# Altium footprint library clock_led.PcbLib: 50 footprints (part 3 of 4)
Each footprint in its own frame and in the unit in brackets; x right, y up, seen from the top. Pads: shape width x height; smd on the part's side, far side on the other; paste and mask are expansions set on the pad; w line width, h text height; cw(c..) or ccw(c..) is an arc to the next point about the centre after c.
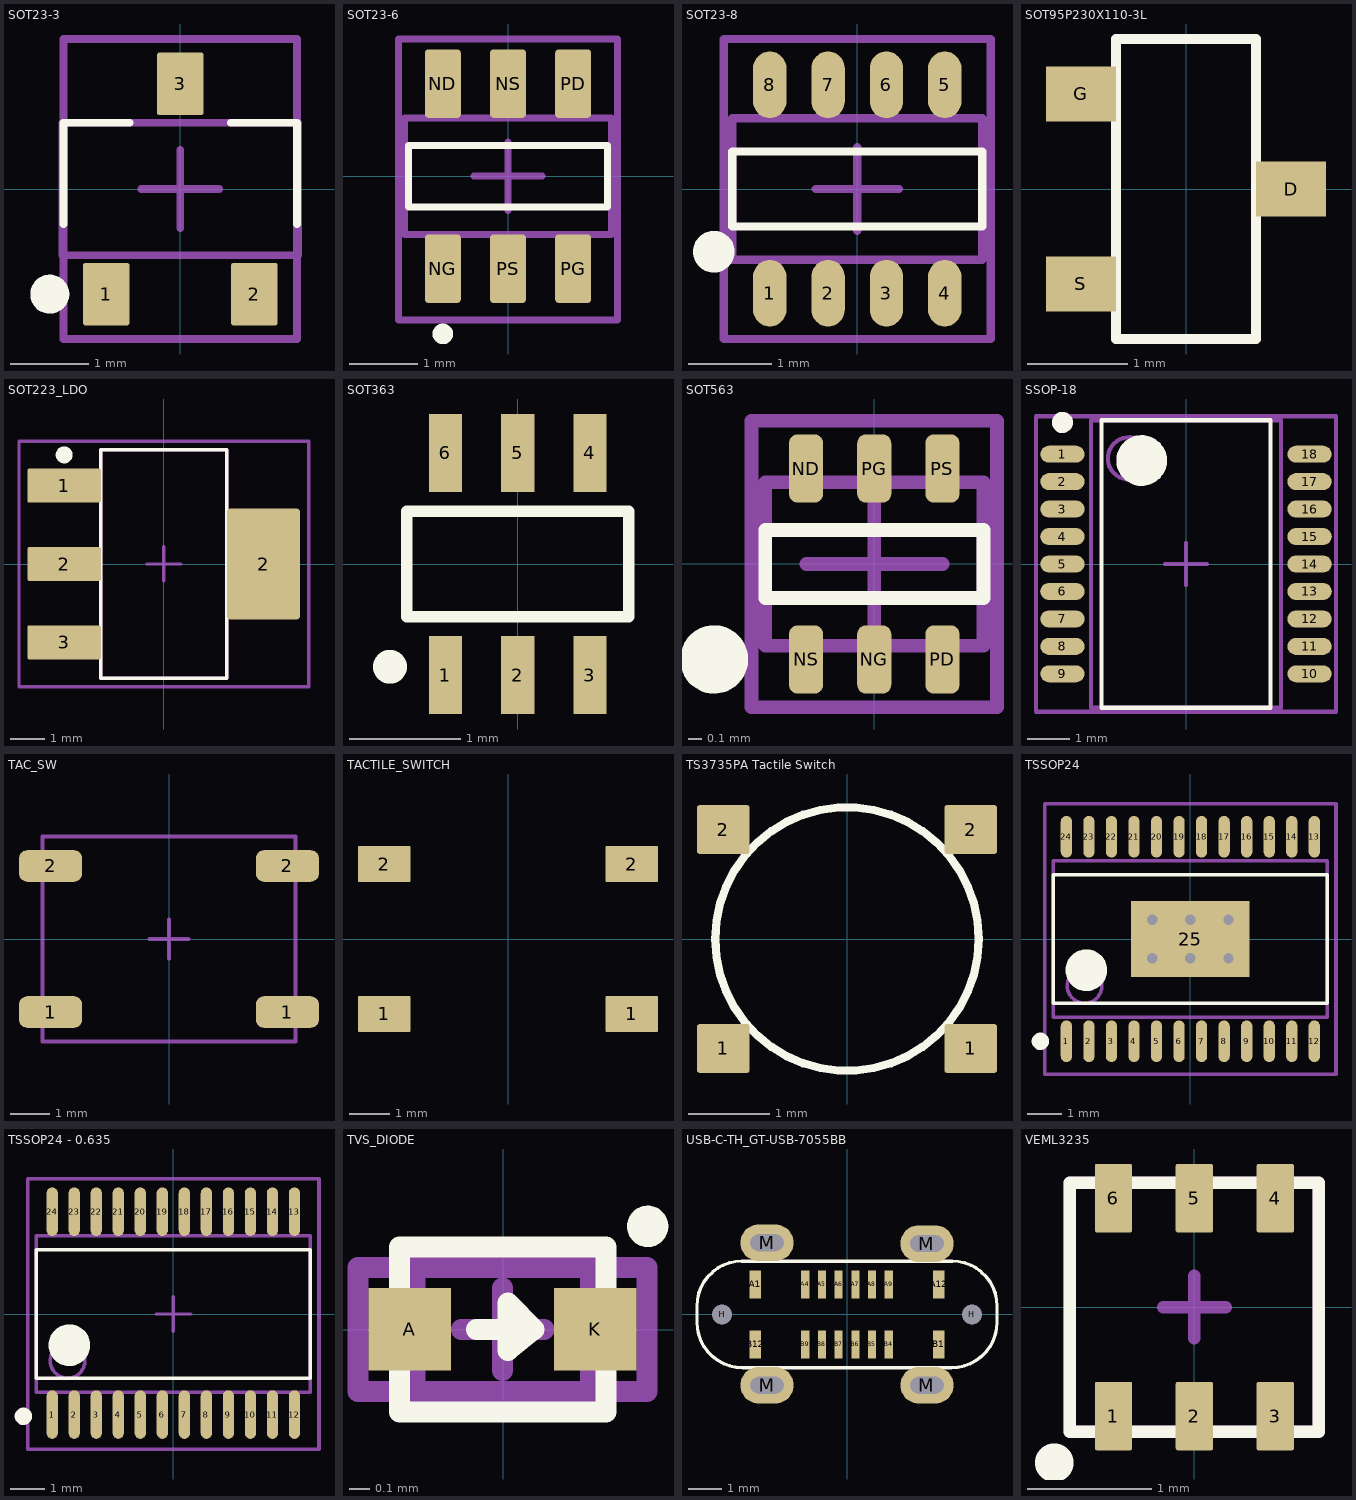
[diagram p2: the footprints below, top view; thin cyan lines are the x and y axes]

## SOT23-3 [mm] "SOT23, 3-Leads, Body 2.92x2.80mm, Pitch 0.95mm, IPC Medium Density"
height 1.25
pads (3):
  rrect10% 0.6x0.8 smd: 1(-0.95,-1.35) 2(0.95,-1.35) 3(0,1.35)
Top Overlay:
  circle w0.25: c-1.675,-1.35 r0.125
  lines w0.102: -1.5,-0.45 -1.5,0.85 -0.651,0.85 ; 0.651,0.85 1.5,0.85 1.5,-0.45
Top Assembly:
  lines w0.102: -1.51,-0.85 1.51,-0.85 1.51,0.85 -1.51,0.85 -1.51,-0.85
Top Courtyard:
  lines w0.1: -0.5,0 0.5,0 ; 0,-0.5 0,0.5
  lines w0.102: -1.5,-1.925 1.5,-1.925 1.5,1.925 -1.5,1.925 -1.5,-1.925
3D body "SOT23-3.step": height 1.25, standoff 0, extent -1.51,-1.475 1.51,1.475

## SOT23-6 [mm] "SOT23, 6-Leads, Body 2.92x2.80mm, Pitch 0.95mm, IPC Medium Density"
height 1.25
pads (6):
  rrect20% 0.525x1 smd: ND(-0.95,1.35) NG(-0.95,-1.35) NS(0,1.35) PD(0.95,1.35) PG(0.95,-1.35) PS(0,-1.35)
Top Overlay:
  circle w0.15: c-0.95,-2.3 r0.075
  lines w0.102: -1.45,-0.45 -1.45,0.45 1.45,0.45 1.45,-0.45 -1.45,-0.45
Top Assembly:
  lines w0.102: -1.51,-0.85 1.51,-0.85 1.51,0.85 -1.51,0.85 -1.51,-0.85
Top Courtyard:
  lines w0.1: -0.5,0 0.5,0 ; 0,-0.5 0,0.5
  lines w0.102: -1.6,-2.1 1.6,-2.1 1.6,2 -1.6,2 -1.6,-2.1
3D body "SOT32-6.step": height 1.25, standoff 0, extent -1.51,-1.475 1.51,1.475

## SOT23-8 [mm] "Dual mosfet AP4580"
height 1
pads (8):
  oval 0.4x0.8 smd: 1(-1.05,-1.25) 2(-0.35,-1.25) 3(0.35,-1.25) 4(1.05,-1.25) 5(1.05,1.25) 6(0.35,1.25) 7(-0.35,1.25) 8(-1.05,1.25)
Top Overlay:
  circle w0.25: c-1.721,-0.753 r0.125
  lines w0.102: -1.5,-0.45 1.5,-0.45 1.5,0.45 -1.5,0.45 -1.5,-0.45
Top Assembly:
  lines w0.102: -1.5,-0.85 1.5,-0.85 1.5,0.85 -1.5,0.85 -1.5,-0.85
Top Courtyard:
  lines w0.1: -0.5,0 0.5,0 ; 0,-0.5 0,0.5
  lines w0.102: -1.6,-1.8 1.6,-1.8 1.6,1.8 -1.6,1.8 -1.6,-1.8
3D body "SOT23-8.step": height 1, standoff 0, extent -1.5,-1.415 1.5,1.415

## SOT95P230X110-3L [mm] "SOT23, 3-Leads, Body 2.90x2.30mm, Pitch 0.95mm, IPC High Density"
height 1.1
pads (3):
  rrect1% 0.7x0.55 smd: D(1.05,0) G(-1.05,0.95) S(-1.05,-0.95)
Top Overlay:
  lines w0.102: -0.7,-1.5 -0.7,1.5 0.7,1.5 0.7,-1.5 -0.7,-1.5
Top Assembly:
  lines w0.1: -0.7,-1.5 -0.7,1.5 0.7,1.5 0.7,-1.5 -0.7,-1.5
3D body "SOT95P230X110-3L.step": height 1.1, standoff 0, extent -1.3,-1.5 1.3,1.5

## SOT223_LDO [mm] "SOT223, 4-Leads, Body 6.50x7.00mm (avg), Pitch 2.30mm, IPC Medium Density"
height 1.8
pads (4):
  rrect10% 2.15x1 smd: 1(-2.925,2.3) 2(-2.925,0) 3(-2.925,-2.3)
  rrect10% 2.15x3.25 smd: 2(2.925,0)
Top Overlay:
  circle w0.25: c-2.925,3.2 r0.125
  lines w0.102: -1.85,-3.35 -1.85,3.35 1.85,3.35 1.85,-3.35 -1.85,-3.35
Top Assembly:
  lines w0.102: -1.85,-3.35 -1.85,3.35 1.85,3.35 1.85,-3.35 -1.85,-3.35
Top Courtyard:
  lines w0.1: -0.5,0 0.5,0 ; 0,-0.5 0,0.5
  lines w0.102: -4.25,-3.6 -4.25,3.6 4.25,3.6 4.25,-3.6 -4.25,-3.6
3D body "SOT223_LDO.step": height 1.8, standoff 0, extent -3.5,-3.35 3.5,3.35

## SOT363 [mm]
pads (6):
  rect 0.3x0.7 smd: 1(-0.65,-1) 2(0,-1) 3(0.65,-1) 4(0.65,1) 5(0,1) 6(-0.65,1)
Top Overlay:
  circle w0.254: c-1.15,-0.925 r0.025
  lines w0.102: -1,-0.475 1,-0.475 1,0.475 -1,0.475 -1,-0.475
3D body "SOT_363_0.65.step": height 1.25, standoff 0, extent -1,-1.056 1,1.056

## SOT563 [mm] "SOTFL, 6-Leads, Body 1.55x1.58mm, Pitch 0.50mm, IPC High Density"
height 0.6
pads (6):
  rrect50% 0.25x0.5 smd: ND(-0.5,0.7) NG(0,-0.7) NS(-0.5,-0.7) PD(0.5,-0.7) PG(0,0.7) PS(0.5,0.7)
Top Overlay:
  circle w0.25: c-1.175,-0.7 r0.125
  lines w0.102: -0.8,-0.25 0.8,-0.25 0.8,0.25 -0.8,0.25 -0.8,-0.25
Top Assembly:
  lines w0.102: -0.8,-0.6 -0.8,0.6 0.8,0.6 0.8,-0.6 -0.8,-0.6
Top Courtyard:
  lines w0.1: -0.5,0 0.5,0 ; 0,-0.5 0,0.5
  lines w0.102: -0.9,-1.05 -0.9,1.05 0.9,1.05 0.9,-1.05 -0.9,-1.05
3D body "SOT563.step": height 0.6, standoff 0, extent -0.798,-0.787 0.798,0.787

## SSOP-18 [mm] "TSOP, 18-Leads, Body 6.80x4.40mm, Pitch 0.65mm, IPC High Density"
height 1.55
pads (18):
  oval 1.05x0.4 smd: 1(-2.925,2.6) 2(-2.925,1.95) 3(-2.925,1.3) 4(-2.925,0.65) 5(-2.925,0) 6(-2.925,-0.65) 7(-2.925,-1.3) 8(-2.925,-1.95) 9(-2.925,-2.6) 10(2.925,-2.6) 11(2.925,-1.95) 12(2.925,-1.3) 13(2.925,-0.65) 14(2.925,0) 15(2.925,0.65) 16(2.925,1.3) 17(2.925,1.95) 18(2.925,2.6)
Top Overlay:
  circle w0.25: c-2.925,3.35 r0.125
  circle w0.6: c-1.049,2.449 r0.3
  lines w0.102: -2,-3.4 -2,3.4 2,3.4 2,-3.4 -2,-3.4
Top Assembly:
  circle w0.1: c-1.349,2.499 r0.5
  lines w0.102: -2.25,-3.4 -2.25,3.4 2.25,3.4 2.25,-3.4 -2.25,-3.4
Top Courtyard:
  lines w0.1: -0.5,0 0.5,0 ; 0,-0.5 0,0.5
  lines w0.102: -3.55,-3.5 -3.55,3.5 3.55,3.5 3.55,-3.5 -3.55,-3.5
3D body "SSOP-18.step": height 1.55, standoff 0, extent -3.2,-3.4 3.2,3.4

## TAC_SW [mm] "C22375382"
pads (4):
  rrect50% 1.6x0.8 smd: 1(-3,-1.85) 1(3,-1.85) 2(-3,1.85) 2(3,1.85)
Top Assembly:
  lines w0.102: -3.2,-2.6 -3.2,2.6 3.2,2.6 3.2,-2.6 -3.2,-2.6
Top Courtyard:
  lines w0.102: -0.5,0 0.5,0 ; 0,-0.5 0,0.5 ; -3.2,-2.6 -3.2,2.6 3.2,2.6 3.2,-2.6 -3.2,-2.6
3D body "SW1.step": height 1.55, standoff 0, extent -3.2,-2.6 3.2,2.6

## TACTILE_SWITCH [mm] "SAMZO G4B203110"
height 1.2
pads (4):
  rrect10% 1.3x0.9 smd: 1(-3.05,-1.85) 1(3.05,-1.85) 2(-3.05,1.85) 2(3.05,1.85)
3D body "swt0220-016016gsa.stp": height 1.6, standoff 0, extent -3.2,-2.6 3.2,2.6

## TS3735PA Tactile Switch [mm] "Tactile Switch"
pads (4):
  rrect10% 0.65x0.6 smd: 1(-1.525,-1.35) 1(1.525,-1.35) 2(-1.525,1.35) 2(1.525,1.35)
Top Overlay:
  circle w0.102: c0,0 r1.625

## TSSOP24 [mm] "TSOP, 24-Leads, Body 7.80x4.40mm, Pitch 0.65mm, Thermal Pad 3.42x2.44mm, IPC Medium Density"
height 1.2
pads (25):
  oval 0.325x1.2 smd: 1(-3.575,-2.95) 2(-2.925,-2.95) 3(-2.275,-2.95) 4(-1.625,-2.95) 5(-0.975,-2.95) 6(-0.325,-2.95) 7(0.325,-2.95) 8(0.975,-2.95) 9(1.625,-2.95) 10(2.275,-2.95) 11(2.925,-2.95) 12(3.575,-2.95) 13(3.575,2.95) 14(2.925,2.95) 15(2.275,2.95) 16(1.625,2.95) 17(0.975,2.95) 18(0.325,2.95) 19(-0.325,2.95) 20(-0.975,2.95) 21(-1.625,2.95) 22(-2.275,2.95) 23(-2.925,2.95) 24(-3.575,2.95)
  rect 3.42x2.2 smd: 25(0,0)
via 1.1,0.55 diameter 0.7 hole 0.3
via 1.1,-0.55 diameter 0.7 hole 0.3
via 0,0.55 diameter 0.7 hole 0.3
via 0,-0.55 diameter 0.7 hole 0.3
via -1.1,0.55 diameter 0.7 hole 0.3
via -1.1,-0.55 diameter 0.7 hole 0.3
Top Overlay:
  circle w0.6: c-2.999,-0.899 r0.3
  circle w0.25: c-4.325,-2.95 r0.125
  lines w0.102: -3.95,-1.85 -3.95,1.85 3.95,1.85 3.95,-1.85 -3.95,-1.85
Top Assembly:
  circle w0.1: c-3.049,-1.349 r0.5
  lines w0.102: -3.95,-2.25 -3.95,2.25 3.95,2.25 3.95,-2.25 -3.95,-2.25
Top Courtyard:
  lines w0.1: -0.5,0 0.5,0 ; 0,-0.5 0,0.5
  lines w0.102: -4.2,-3.9 -4.2,3.9 4.2,3.9 4.2,-3.9 -4.2,-3.9
3D body "TSSOP24.step": height 1.2, standoff 0, extent -3.95,-3.2 3.95,3.2

## TSSOP24 - 0.635 [mm] "TSOP, 24-Leads, Body 7.80x4.40mm, Pitch 0.65mm, Thermal Pad 3.42x2.44mm, IPC Medium Density"
height 1.2
pads (24):
  oval 0.325x1.4 smd: 1(-3.492,-2.9) 2(-2.857,-2.9) 3(-2.222,-2.9) 4(-1.587,-2.9) 5(-0.953,-2.9) 6(-0.318,-2.9) 7(0.318,-2.9) 8(0.953,-2.9) 9(1.587,-2.9) 10(2.222,-2.9) 11(2.857,-2.9) 12(3.492,-2.9) 13(3.492,2.95) 14(2.857,2.95) 15(2.222,2.95) 16(1.587,2.95) 17(0.953,2.95) 18(0.318,2.95) 19(-0.318,2.95) 20(-0.953,2.95) 21(-1.587,2.95) 22(-2.222,2.95) 23(-2.857,2.95) 24(-3.492,2.95)
Top Overlay:
  circle w0.25: c-4.325,-2.95 r0.125
  circle w0.6: c-2.999,-0.899 r0.3
  lines w0.102: -3.95,-1.85 3.95,-1.85 3.95,1.85 -3.95,1.85 -3.95,-1.85
Top Assembly:
  circle w0.1: c-3.049,-1.349 r0.5
  lines w0.102: -3.95,-2.25 3.95,-2.25 3.95,2.25 -3.95,2.25 -3.95,-2.25
Top Courtyard:
  lines w0.1: -0.5,0 0.5,0 ; 0,-0.5 0,0.5
  lines w0.102: -4.2,-3.9 4.2,-3.9 4.2,3.9 -4.2,3.9 -4.2,-3.9
3D body "TSSOP24.step": height 1.2, standoff 0, extent -3.95,-3.2 3.95,3.2

## TVS_DIODE [mm] "SODFL 98x40 2 pin"
height 0.4
pads (2):
  rrect1% 0.4x0.4 smd: A(-0.453,0.001) K(0.447,0.001)
Top Overlay:
  circle w0.1: c0.7,0.5 r0.05
  lines w0.102: -0.13,0.001 0.149,0.001 ; 0.149,0.001 0.022,0.128 0.022,-0.101 0.149,0.001 ; -0.503,-0.399 0.497,-0.399 0.497,0.401 -0.503,0.401 -0.503,-0.399
Top Assembly:
  lines w0.102: -0.428,-0.299 -0.428,0.301 0.422,0.301 0.422,-0.299 -0.428,-0.299
Top Courtyard:
  lines w0.102: -0.203,0.001 0.197,0.001 ; -0.003,-0.199 -0.003,0.201 ; -0.703,-0.299 -0.703,0.301 0.697,0.301 0.697,-0.299 -0.703,-0.299
3D body "SODFL98X40-2L.step": height 0.4, standoff 0, extent -0.49,-0.324 0.485,0.326

## USB-C-TH_GT-USB-7055BB [mm] "USB  C vertical connector"
height 6.5
pads (22):
  rrect10% 0.35x0.85 smd mask+0: A1(-2.75,0.9) A12(2.75,0.9) B1(2.75,-0.9) B12(-2.75,-0.9)
  rrect10% 0.25x0.85 smd mask+0: A4(-1.25,0.9) A9(1.25,0.9) B4(1.25,-0.9) B9(-1.25,-0.9)
  rrect10% 0.24x0.85 smd mask+0: A5(-0.75,0.9) A6(-0.25,0.9) A7(0.25,0.9) A8(0.75,0.9) B5(0.75,-0.9) B6(0.25,-0.9) B7(-0.25,-0.9) B8(-0.75,-0.9)
  round 0.325 hole 0.6 unplated mask+0: H(-3.75,0) H(3.75,0)
  oval 1.6x1.1 hole 0.5 slot 1 at 0 deg mask+0: M(-2.4,-2.125) M(-2.4,2.15) M(2.4,-2.125) M(2.4,2.125)
Top Overlay:
  lines w0.1: -4.5,-0.234 ccw(c-3.134,-0.234) -3.134,-1.6 ; -4.5,0.252 cw(c-3.152,0.252) -3.152,1.6 ; 3.134,-1.6 ccw(c3.134,-0.234) 4.5,-0.234 ; 3.152,1.6 cw(c3.152,0.252) 4.5,0.252
  lines w0.102: -4.5,-0.234 -4.5,0.252 ; -3.152,1.6 3.152,1.6 ; -3.134,-1.6 3.134,-1.6 ; 4.5,-0.234 4.5,0.252
3D body "USB-C-TH_GT-USB-7055BB_ORIGIN.step": height 6.55, standoff -0.8, extent -4.47,-2.3 4.47,2.3

## VEML3235 [mm]
pads (6):
  rrect10% 0.3x0.55 smd: 1(-0.65,-0.875) 2(0,-0.875) 3(0.65,-0.875) 4(0.65,0.875) 5(0,0.875) 6(-0.65,0.875)
Top Overlay:
  circle w0.29: c-1.125,-1.25 r0.01
  lines w0.102: -1,-1 1,-1 1,1 -1,1 -1,-1
Top Courtyard:
  lines w0.102: -0.25,0 0.25,0 ; 0,-0.25 0,0.25 ; -1,-1 -1,1 1,1 1,-1 -1,-1